# Altium schematic symbol library TPS54340DDAR.Schlib: 1 symbol
Pins are listed as number, name and electrical type; pins without a type are passive.

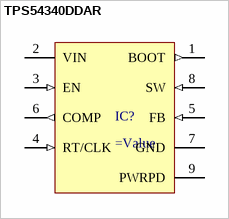
[diagram p0: symbol TPS54340DDAR]

## TPS54340DDAR
designator IC?
=Description
pins: 1 BOOT (out), 2 VIN, 3 EN (in), 4 RT/CLK (in), 5 FB (in), 6 COMP (out), 7 GND (power), 8 SW (in), 9 PWRPD (power)